# Altium footprint library con-phoenix-508.PCBLIB: 90 footprints (part 6 of 6)
Each footprint in its own frame and in the unit in brackets; x right, y up, seen from the top. Pads: shape width x height; smd on the part's side, far side on the other; paste and mask are expansions set on the pad; w line width, h text height; cw(c..) or ccw(c..) is an arc to the next point about the centre after c.
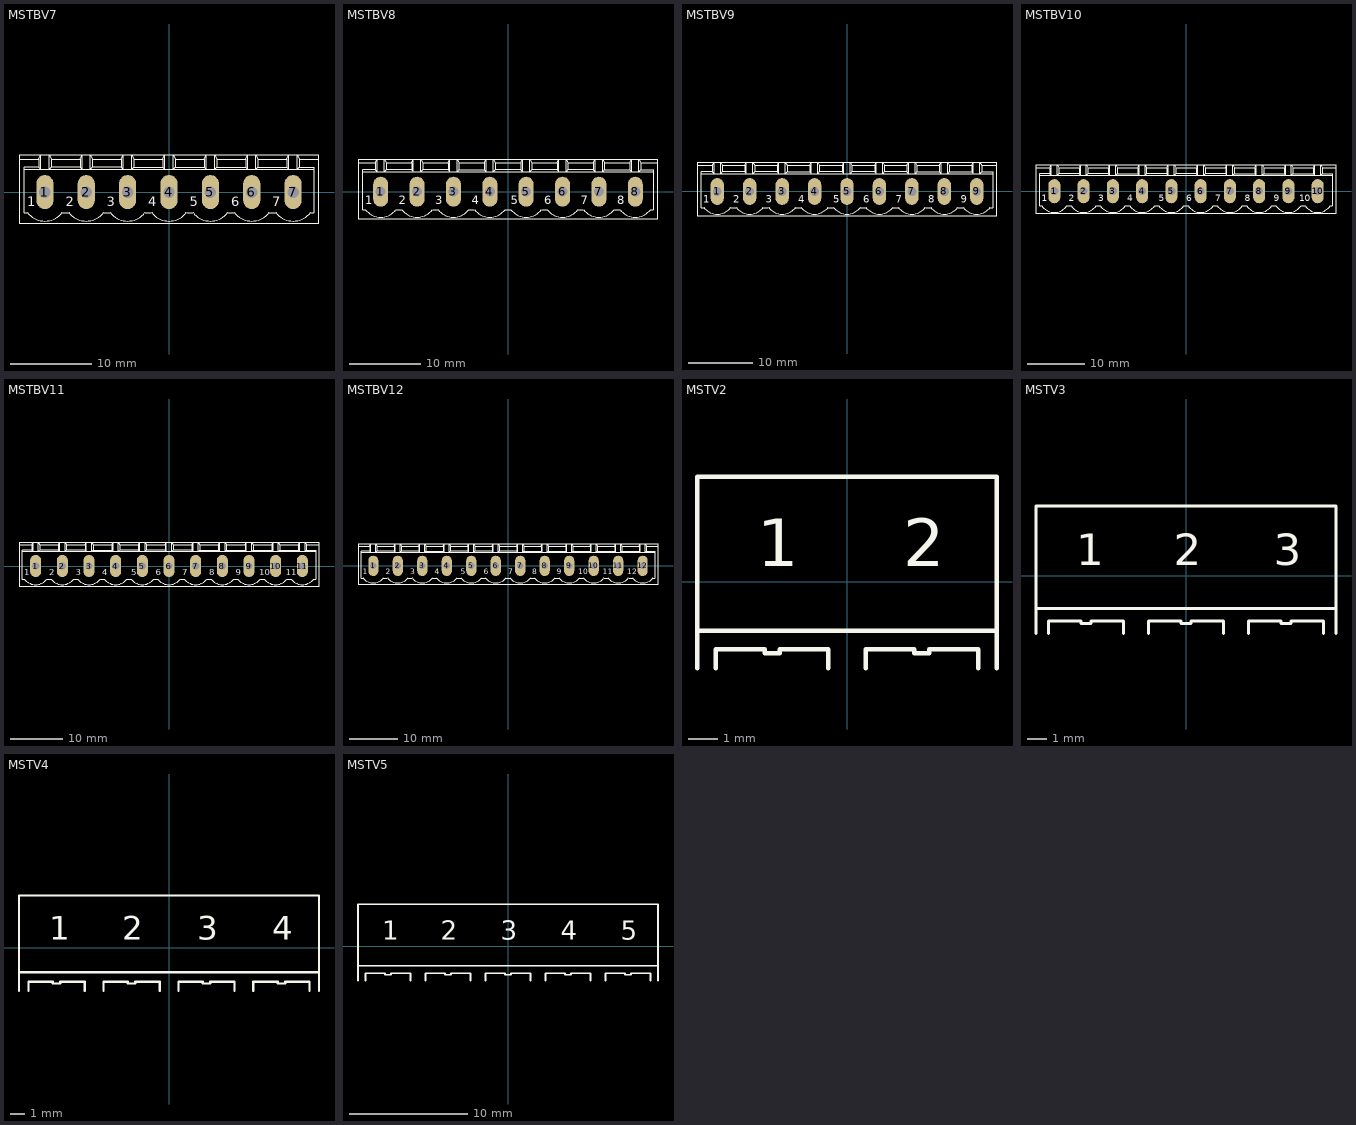
[diagram p5: the footprints below, top view; thin cyan lines are the x and y axes]

## MSTBV7 [mil]
pads (7):
  oval 82.5x165 hole 55: 1(-600,0) 2(-400,0) 3(-200,0) 4(0,0) 5(200,0) 6(400,0) 7(600,0)
Top Overlay:
  lines w6: -684,-98 ccw(c-600,-35) -600,-140 ccw(c-600,-35) -516,-98 ; -683,-100 -700,-100 -700,110 ; -515,-100 -485,-100 ; -484,-98 ccw(c-400,-35) -400,-140 ccw(c-400,-35) -316,-98 ; -315,-100 -285,-100 ; -284,-98 ccw(c-200,-35) -200,-140 ccw(c-200,-35) -116,-98 ; -115,-100 -85,-100 ; -84,-98 ccw(c0,-35) 0,-140 ccw(c0,-35) 84,-98 ; 85,-100 115,-100 ; 116,-98 ccw(c200,-35) 200,-140 ccw(c200,-35) 284,-98 ; 285,-100 315,-100 ; 316,-98 ccw(c400,-35) 400,-140 ccw(c400,-35) 484,-98 ; 485,-100 515,-100 ; 516,-98 ccw(c600,-35) 600,-140 ccw(c600,-35) 684,-98 ; 683,-100 700,-100 700,110 ; -725,160 -725,180 -620,180 ; -725,160 -725,-150 725,-150 725,160 ; -725,160 -630,160 ; -700,110 -700,120 -630,120 ; -700,110 -620,110 ; -630,120 -630,160 ; -630,120 -620,110 ; -630,160 -620,180 ; -620,110 -580,110 ; -620,110 -620,180 ; -620,180 -580,180 ; -580,110 -420,110 ; -580,110 -580,180 ; -580,110 -570,120 ; -580,180 -420,180 ; -580,180 -570,160 ; -570,120 -430,120 ; -570,120 -570,160 ; -570,160 -430,160 ; -430,120 -430,160 ; -430,120 -420,110 ; -430,160 -420,180 ; -420,110 -380,110 ; -420,110 -420,180 ; -420,180 -380,180 ; -380,110 -220,110 ; -380,110 -380,180 ; -380,110 -370,120 ; -380,180 -220,180 ; -380,180 -370,160 ; -370,120 -230,120 ; -370,120 -370,160 ; -370,160 -230,160 ; -230,120 -230,160 ; -230,120 -220,110 ; -230,160 -220,180 ; -220,110 -180,110 ; -220,110 -220,180 ; -220,180 -180,180 ; -180,110 -20,110 ; -180,110 -180,180 ; -180,110 -170,120 ; -180,180 -20,180 ; -180,180 -170,160 ; -170,120 -170,160 ; -170,120 -30,120 ; -170,160 -30,160 ; -30,120 -30,160 ; -30,120 -20,110 ; -30,160 -20,180 ; -20,110 20,110 ; -20,110 -20,180 ; -20,180 20,180 ; 20,110 180,110 ; 20,110 20,180 ; 20,110 30,120 ; 20,180 180,180 ; 20,180 30,160 ; 30,120 170,120 ; 30,120 30,160 ; 30,160 170,160 ; 170,120 170,160 ; 170,120 180,110 ; 170,160 180,180 ; 180,110 220,110 ; 180,110 180,180 ; 180,180 220,180 ; 220,110 380,110 ; 220,110 220,180 ; 220,110 230,120 ; 220,180 380,180 ; 220,180 230,160 ; 230,120 370,120 ; 230,120 230,160 ; 230,160 370,160 ; 370,120 370,160 ; 370,120 380,110 ; 370,160 380,180 ; 380,110 420,110 ; 380,110 380,180 ; 380,180 420,180 ; 420,110 580,110 ; 420,110 420,180 ; 420,110 430,120 ; 420,180 580,180 ; 420,180 430,160 ; 430,120 570,120 ; 430,120 430,160 ; 430,160 570,160 ; 570,120 570,160 ; 570,120 580,110 ; 570,160 580,180 ; 580,110 620,110 ; 580,110 580,180 ; 580,180 620,180 ; 620,110 700,110 ; 620,110 620,180 ; 620,110 630,120 ; 620,180 725,180 725,160 ; 620,180 630,160 ; 630,120 700,120 700,110 ; 630,120 630,160 ; 630,160 725,160
  text "1" at -685,-85 h77.5
  text "2" at -500,-85 h77.5
  text "3" at -300,-85 h77.5
  text "4" at -100,-85 h77.5
  text "5" at 100,-85 h77.5
  text "6" at 300,-85 h77.5
  text "7" at 500,-85 h77.5
Courtyard Bottom:
  lines w6: -625,-25 -625,25 ; -625,-25 -575,-25 ; -625,-25 -575,25 ; -625,25 -575,25 ; -625,25 -575,-25 ; -575,-25 -575,25 ; -425,-25 -375,-25 ; -425,-25 -425,25 ; -425,-25 -375,25 ; -425,25 -375,25 ; -425,25 -375,-25 ; -375,-25 -375,25 ; -225,-25 -225,25 ; -225,-25 -175,-25 ; -225,-25 -175,25 ; -225,25 -175,25 ; -225,25 -175,-25 ; -175,-25 -175,25 ; -25,-25 -25,25 ; -25,-25 25,25 ; -25,-25 25,-25 ; -25,25 25,25 ; -25,25 25,-25 ; 25,-25 25,25 ; 175,-25 225,-25 ; 175,-25 175,25 ; 175,-25 225,25 ; 175,25 225,25 ; 175,25 225,-25 ; 225,-25 225,25 ; 375,-25 375,25 ; 375,-25 425,-25 ; 375,-25 425,25 ; 375,25 425,25 ; 375,25 425,-25 ; 425,-25 425,25 ; 575,-25 575,25 ; 575,-25 625,-25 ; 575,-25 625,25 ; 575,25 625,25 ; 575,25 625,-25 ; 625,-25 625,25

## MSTBV8 [mil]
pads (8):
  oval 82.5x165 hole 55: 1(-700,0) 2(-500,0) 3(-300,0) 4(-100,0) 5(100,0) 6(300,0) 7(500,0) 8(700,0)
Top Overlay:
  lines w6: -784,-98 ccw(c-700,-35) -700,-140 ccw(c-700,-35) -616,-98 ; -783,-100 -800,-100 -800,110 ; -615,-100 -585,-100 ; -584,-98 ccw(c-500,-35) -500,-140 ccw(c-500,-35) -416,-98 ; -415,-100 -385,-100 ; -384,-98 ccw(c-300,-35) -300,-140 ccw(c-300,-35) -216,-98 ; -215,-100 -185,-100 ; -184,-98 ccw(c-100,-35) -100,-140 ccw(c-100,-35) -16,-98 ; -17,-100 17,-100 ; 16,-98 ccw(c100,-35) 100,-140 ccw(c100,-35) 184,-98 ; 185,-100 215,-100 ; 216,-98 ccw(c300,-35) 300,-140 ccw(c300,-35) 384,-98 ; 385,-100 415,-100 ; 416,-98 ccw(c500,-35) 500,-140 ccw(c500,-35) 584,-98 ; 585,-100 615,-100 ; 616,-98 ccw(c700,-35) 700,-140 ccw(c700,-35) 784,-98 ; 783,-100 800,-100 800,110 ; -825,160 -825,180 -720,180 ; -825,160 -825,-150 825,-150 825,160 ; -825,160 -730,160 ; -800,110 -800,120 -730,120 ; -800,110 -720,110 ; -730,120 -730,160 ; -730,120 -720,110 ; -730,160 -720,180 ; -720,110 -680,110 ; -720,110 -720,180 ; -720,180 -680,180 ; -680,110 -520,110 ; -680,110 -680,180 ; -680,110 -670,120 ; -680,180 -520,180 ; -680,180 -670,160 ; -670,120 -530,120 ; -670,120 -670,160 ; -670,160 -530,160 ; -530,120 -530,160 ; -530,120 -520,110 ; -530,160 -520,180 ; -520,110 -480,110 ; -520,110 -520,180 ; -520,180 -480,180 ; -480,110 -320,110 ; -480,110 -480,180 ; -480,110 -470,120 ; -480,180 -320,180 ; -480,180 -470,160 ; -470,120 -330,120 ; -470,120 -470,160 ; -470,160 -330,160 ; -330,120 -330,160 ; -330,120 -320,110 ; -330,160 -320,180 ; -320,110 -280,110 ; -320,110 -320,180 ; -320,180 -280,180 ; -280,110 -120,110 ; -280,110 -280,180 ; -280,110 -270,120 ; -280,180 -120,180 ; -280,180 -270,160 ; -270,120 -270,160 ; -270,120 -130,120 ; -270,160 -130,160 ; -130,120 -130,160 ; -130,120 -120,110 ; -130,160 -120,180 ; -120,110 -80,110 ; -120,110 -120,180 ; -120,180 -80,180 ; -80,110 -80,180 ; -80,110 -70,120 ; -80,110 80,110 ; -80,180 -70,160 ; -80,180 80,180 ; -70,120 -70,160 ; -70,120 70,120 ; -70,160 70,160 ; 70,120 70,160 ; 70,120 80,110 ; 70,160 80,180 ; 80,110 120,110 ; 80,110 80,180 ; 80,180 120,180 ; 120,110 280,110 ; 120,110 120,180 ; 120,110 130,120 ; 120,180 280,180 ; 120,180 130,160 ; 130,120 270,120 ; 130,120 130,160 ; 130,160 270,160 ; 270,120 270,160 ; 270,120 280,110 ; 270,160 280,180 ; 280,110 320,110 ; 280,110 280,180 ; 280,180 320,180 ; 320,110 480,110 ; 320,110 320,180 ; 320,110 330,120 ; 320,180 480,180 ; 320,180 330,160 ; 330,120 470,120 ; 330,120 330,160 ; 330,160 470,160 ; 470,120 470,160 ; 470,120 480,110 ; 470,160 480,180 ; 480,110 520,110 ; 480,110 480,180 ; 480,180 520,180 ; 520,110 680,110 ; 520,110 520,180 ; 520,110 530,120 ; 520,180 680,180 ; 520,180 530,160 ; 530,120 530,160 ; 530,120 670,120 ; 530,160 670,160 ; 670,120 670,160 ; 670,120 680,110 ; 670,160 680,180 ; 680,110 720,110 ; 680,110 680,180 ; 680,180 720,180 ; 720,110 800,110 ; 720,110 720,180 ; 720,110 730,120 ; 720,180 825,180 825,160 ; 720,180 730,160 ; 730,120 800,120 800,110 ; 730,120 730,160 ; 730,160 825,160
  text "1" at -785,-85 h77.5
  text "2" at -600,-85 h77.5
  text "3" at -400,-85 h77.5
  text "4" at -200,-85 h77.5
  text "5" at 15,-85 h77.5
  text "6" at 200,-85 h77.5
  text "7" at 400,-85 h77.5
  text "8" at 600,-85 h77.5
Courtyard Bottom:
  lines w6: -725,-25 -725,25 ; -725,-25 -675,-25 ; -725,-25 -675,25 ; -725,25 -675,25 ; -725,25 -675,-25 ; -675,-25 -675,25 ; -525,-25 -475,-25 ; -525,-25 -525,25 ; -525,-25 -475,25 ; -525,25 -475,25 ; -525,25 -475,-25 ; -475,-25 -475,25 ; -325,-25 -325,25 ; -325,-25 -275,-25 ; -325,-25 -275,25 ; -325,25 -275,25 ; -325,25 -275,-25 ; -275,-25 -275,25 ; -125,-25 -125,25 ; -125,-25 -75,25 ; -125,-25 -75,-25 ; -125,25 -75,25 ; -125,25 -75,-25 ; -75,-25 -75,25 ; 75,-25 75,25 ; 75,-25 125,-25 ; 75,-25 125,25 ; 75,25 125,25 ; 75,25 125,-25 ; 125,-25 125,25 ; 275,-25 325,-25 ; 275,-25 275,25 ; 275,-25 325,25 ; 275,25 325,25 ; 275,25 325,-25 ; 325,-25 325,25 ; 475,-25 475,25 ; 475,-25 525,-25 ; 475,-25 525,25 ; 475,25 525,25 ; 475,25 525,-25 ; 525,-25 525,25 ; 675,-25 675,25 ; 675,-25 725,25 ; 675,-25 725,-25 ; 675,25 725,25 ; 675,25 725,-25 ; 725,-25 725,25

## MSTBV9 [mil]
pads (9):
  oval 82.5x165 hole 55: 1(-800,0) 2(-600,0) 3(-400,0) 4(-200,0) 5(0,0) 6(200,0) 7(400,0) 8(600,0) 9(800,0)
Top Overlay:
  drawing of 167 lines, arcs and shapes, not listed
  text "1" at -885,-85 h77.5
  text "2" at -700,-85 h77.5
  text "3" at -500,-85 h77.5
  text "4" at -300,-85 h77.5
  text "5" at -85,-85 h77.5
  text "6" at 100,-85 h77.5
  text "7" at 300,-85 h77.5
  text "8" at 500,-85 h77.5
  text "9" at 700,-85 h77.5
Courtyard Bottom:
  lines w6: -825,-25 -825,25 ; -825,-25 -775,-25 ; -825,-25 -775,25 ; -825,25 -775,25 ; -825,25 -775,-25 ; -775,-25 -775,25 ; -625,-25 -575,-25 ; -625,-25 -625,25 ; -625,-25 -575,25 ; -625,25 -575,25 ; -625,25 -575,-25 ; -575,-25 -575,25 ; -425,-25 -425,25 ; -425,-25 -375,-25 ; -425,-25 -375,25 ; -425,25 -375,25 ; -425,25 -375,-25 ; -375,-25 -375,25 ; -225,-25 -225,25 ; -225,-25 -175,25 ; -225,-25 -175,-25 ; -225,25 -175,25 ; -225,25 -175,-25 ; -175,-25 -175,25 ; -25,-25 -25,25 ; -25,-25 25,-25 ; -25,-25 25,25 ; -25,25 25,25 ; -25,25 25,-25 ; 25,-25 25,25 ; 175,-25 225,-25 ; 175,-25 175,25 ; 175,-25 225,25 ; 175,25 225,25 ; 175,25 225,-25 ; 225,-25 225,25 ; 375,-25 375,25 ; 375,-25 425,-25 ; 375,-25 425,25 ; 375,25 425,25 ; 375,25 425,-25 ; 425,-25 425,25 ; 575,-25 575,25 ; 575,-25 625,25 ; 575,-25 625,-25 ; 575,25 625,25 ; 575,25 625,-25 ; 625,-25 625,25 ; 775,-25 775,25 ; 775,-25 825,-25 ; 775,-25 825,25 ; 775,25 825,25 ; 775,25 825,-25 ; 825,-25 825,25

## MSTBV10 [mil]
pads (10):
  oval 82.5x165 hole 55: 1(-900,0) 2(-700,0) 3(-500,0) 4(-300,0) 5(-100,0) 6(100,0) 7(300,0) 8(500,0) 9(700,0) 10(900,0)
Top Overlay:
  drawing of 184 lines, arcs and shapes, not listed
  text "1" at -985,-85 h77.5
  text "2" at -800,-85 h77.5
  text "3" at -600,-85 h77.5
  text "4" at -400,-85 h77.5
  text "5" at -185,-85 h77.5
  text "6" at 0,-85 h77.5
  text "7" at 200,-85 h77.5
  text "8" at 400,-85 h77.5
  text "9" at 600,-85 h77.5
  text "10" at 775,-85 h77.5
Courtyard Bottom:
  lines w6: -925,-25 -925,25 ; -925,-25 -875,-25 ; -925,-25 -875,25 ; -925,25 -875,25 ; -925,25 -875,-25 ; -875,-25 -875,25 ; -725,-25 -675,-25 ; -725,-25 -725,25 ; -725,-25 -675,25 ; -725,25 -675,25 ; -725,25 -675,-25 ; -675,-25 -675,25 ; -525,-25 -525,25 ; -525,-25 -475,-25 ; -525,-25 -475,25 ; -525,25 -475,25 ; -525,25 -475,-25 ; -475,-25 -475,25 ; -325,-25 -325,25 ; -325,-25 -275,25 ; -325,-25 -275,-25 ; -325,25 -275,25 ; -325,25 -275,-25 ; -275,-25 -275,25 ; -125,-25 -125,25 ; -125,-25 -75,-25 ; -125,-25 -75,25 ; -125,25 -75,25 ; -125,25 -75,-25 ; -75,-25 -75,25 ; 75,-25 125,-25 ; 75,-25 75,25 ; 75,-25 125,25 ; 75,25 125,25 ; 75,25 125,-25 ; 125,-25 125,25 ; 275,-25 275,25 ; 275,-25 325,-25 ; 275,-25 325,25 ; 275,25 325,25 ; 275,25 325,-25 ; 325,-25 325,25 ; 475,-25 475,25 ; 475,-25 525,25 ; 475,-25 525,-25 ; 475,25 525,25 ; 475,25 525,-25 ; 525,-25 525,25 ; 675,-25 675,25 ; 675,-25 725,-25 ; 675,-25 725,25 ; 675,25 725,25 ; 675,25 725,-25 ; 725,-25 725,25 ; 875,-25 875,25 ; 875,-25 925,-25 ; 875,-25 925,25 ; 875,25 925,25 ; 875,25 925,-25 ; 925,-25 925,25

## MSTBV11 [mil]
pads (11):
  oval 82.5x165 hole 55: 1(-1000,0) 2(-800,0) 3(-600,0) 4(-400,0) 5(-200,0) 6(0,0) 7(200,0) 8(400,0) 9(600,0) 10(800,0) 11(1000,0)
Top Overlay:
  drawing of 201 lines, arcs and shapes, not listed
  text "1" at -1085,-85 h77.5
  text "2" at -900,-85 h77.5
  text "3" at -700,-85 h77.5
  text "4" at -500,-85 h77.5
  text "5" at -285,-85 h77.5
  text "6" at -100,-85 h77.5
  text "7" at 100,-85 h77.5
  text "8" at 300,-85 h77.5
  text "9" at 500,-85 h77.5
  text "10" at 675,-85 h77.5
  text "11" at 875,-85 h77.5
Courtyard Bottom:
  lines w6: -1025,-25 -1025,25 ; -1025,-25 -975,-25 ; -1025,-25 -975,25 ; -1025,25 -975,25 ; -1025,25 -975,-25 ; -975,-25 -975,25 ; -825,-25 -775,-25 ; -825,-25 -825,25 ; -825,-25 -775,25 ; -825,25 -775,25 ; -825,25 -775,-25 ; -775,-25 -775,25 ; -625,-25 -625,25 ; -625,-25 -575,-25 ; -625,-25 -575,25 ; -625,25 -575,25 ; -625,25 -575,-25 ; -575,-25 -575,25 ; -425,-25 -425,25 ; -425,-25 -375,25 ; -425,-25 -375,-25 ; -425,25 -375,25 ; -425,25 -375,-25 ; -375,-25 -375,25 ; -225,-25 -225,25 ; -225,-25 -175,-25 ; -225,-25 -175,25 ; -225,25 -175,25 ; -225,25 -175,-25 ; -175,-25 -175,25 ; -25,-25 25,-25 ; -25,-25 -25,25 ; -25,-25 25,25 ; -25,25 25,25 ; -25,25 25,-25 ; 25,-25 25,25 ; 175,-25 175,25 ; 175,-25 225,-25 ; 175,-25 225,25 ; 175,25 225,25 ; 175,25 225,-25 ; 225,-25 225,25 ; 375,-25 375,25 ; 375,-25 425,25 ; 375,-25 425,-25 ; 375,25 425,25 ; 375,25 425,-25 ; 425,-25 425,25 ; 575,-25 575,25 ; 575,-25 625,-25 ; 575,-25 625,25 ; 575,25 625,25 ; 575,25 625,-25 ; 625,-25 625,25 ; 775,-25 775,25 ; 775,-25 825,-25 ; 775,-25 825,25 ; 775,25 825,25 ; 775,25 825,-25 ; 825,-25 825,25 ; 975,-25 975,25 ; 975,-25 1025,-25 ; 975,-25 1025,25 ; 975,25 1025,25 ; 975,25 1025,-25 ; 1025,-25 1025,25

## MSTBV12 [mil]
pads (12):
  oval 82.5x165 hole 55: 1(-1100,0) 2(-900,0) 3(-700,0) 4(-500,0) 5(-300,0) 6(-100,0) 7(100,0) 8(300,0) 9(500,0) 10(700,0) 11(900,0) 12(1100,0)
Top Overlay:
  drawing of 218 lines, arcs and shapes, not listed
  text "1" at -1185,-85 h77.5
  text "2" at -1000,-85 h77.5
  text "3" at -800,-85 h77.5
  text "4" at -600,-85 h77.5
  text "5" at -385,-85 h77.5
  text "6" at -200,-85 h77.5
  text "7" at 0,-85 h77.5
  text "8" at 200,-85 h77.5
  text "9" at 400,-85 h77.5
  text "10" at 575,-85 h77.5
  text "11" at 775,-85 h77.5
  text "12" at 975,-85 h77.5
Courtyard Bottom:
  lines w6: -1125,-25 -1125,25 ; -1125,-25 -1075,-25 ; -1125,-25 -1075,25 ; -1125,25 -1075,25 ; -1125,25 -1075,-25 ; -1075,-25 -1075,25 ; -925,-25 -875,-25 ; -925,-25 -925,25 ; -925,-25 -875,25 ; -925,25 -875,25 ; -925,25 -875,-25 ; -875,-25 -875,25 ; -725,-25 -725,25 ; -725,-25 -675,-25 ; -725,-25 -675,25 ; -725,25 -675,25 ; -725,25 -675,-25 ; -675,-25 -675,25 ; -525,-25 -525,25 ; -525,-25 -475,25 ; -525,-25 -475,-25 ; -525,25 -475,25 ; -525,25 -475,-25 ; -475,-25 -475,25 ; -325,-25 -325,25 ; -325,-25 -275,-25 ; -325,-25 -275,25 ; -325,25 -275,25 ; -325,25 -275,-25 ; -275,-25 -275,25 ; -125,-25 -75,-25 ; -125,-25 -125,25 ; -125,-25 -75,25 ; -125,25 -75,25 ; -125,25 -75,-25 ; -75,-25 -75,25 ; 75,-25 75,25 ; 75,-25 125,-25 ; 75,-25 125,25 ; 75,25 125,25 ; 75,25 125,-25 ; 125,-25 125,25 ; 275,-25 275,25 ; 275,-25 325,25 ; 275,-25 325,-25 ; 275,25 325,25 ; 275,25 325,-25 ; 325,-25 325,25 ; 475,-25 475,25 ; 475,-25 525,-25 ; 475,-25 525,25 ; 475,25 525,25 ; 475,25 525,-25 ; 525,-25 525,25 ; 675,-25 675,25 ; 675,-25 725,-25 ; 675,-25 725,25 ; 675,25 725,25 ; 675,25 725,-25 ; 725,-25 725,25 ; 875,-25 875,25 ; 875,-25 925,-25 ; 875,-25 925,25 ; 875,25 925,25 ; 875,25 925,-25 ; 925,-25 925,25 ; 1075,-25 1075,25 ; 1075,-25 1125,-25 ; 1075,-25 1125,25 ; 1075,25 1125,25 ; 1075,25 1125,-25 ; 1125,-25 1125,25

## MSTV2 [mil]
Top Overlay:
  lines w6: -200,-115 -200,-65 ; -175,-115 -175,-90 -110,-90 -110,-95 -90,-95 -90,-90 -25,-90 -25,-115 ; 25,-115 25,-90 90,-90 90,-95 110,-95 110,-90 175,-90 175,-115 ; 200,-115 200,-65 ; -200,-65 -200,140 200,140 200,-65 ; -200,-65 200,-65
  text "1" at -120,0 h108.5
  text "2" at 75,0 h108.5

## MSTV3 [mil]
Top Overlay:
  lines w6: -300,-115 -300,-65 ; -275,-115 -275,-90 -210,-90 -210,-95 -190,-95 -190,-90 -125,-90 -125,-115 ; -75,-115 -75,-90 -10,-90 -10,-95 10,-95 10,-90 75,-90 75,-115 ; 125,-115 125,-90 190,-90 190,-95 210,-95 210,-90 275,-90 275,-115 ; 300,-115 300,-65 ; -300,-65 -300,140 300,140 300,-65 ; -300,-65 300,-65
  text "1" at -220,0 h108.5
  text "2" at -25,0 h108.5
  text "3" at 175,0 h108.5

## MSTV4 [mil]
Top Overlay:
  lines w6: -400,-115 -400,-65 ; -375,-115 -375,-90 -310,-90 -310,-95 -290,-95 -290,-90 -225,-90 -225,-115 ; -175,-115 -175,-90 -110,-90 -110,-95 -90,-95 -90,-90 -25,-90 -25,-115 ; 25,-115 25,-90 90,-90 90,-95 110,-95 110,-90 175,-90 175,-115 ; 225,-115 225,-90 290,-90 290,-95 310,-95 310,-90 375,-90 375,-115 ; 400,-115 400,-65 ; -400,-65 -400,140 400,140 400,-65 ; -400,-65 400,-65
  text "1" at -320,0 h108.5
  text "2" at -125,0 h108.5
  text "3" at 75,0 h108.5
  text "4" at 275,0 h108.5

## MSTV5 [mil]
Top Overlay:
  lines w6: -500,-115 -500,-65 ; -475,-115 -475,-90 -410,-90 -410,-95 -390,-95 -390,-90 -325,-90 -325,-115 ; -275,-115 -275,-90 -210,-90 -210,-95 -190,-95 -190,-90 -125,-90 -125,-115 ; -75,-115 -75,-90 -10,-90 -10,-95 10,-95 10,-90 75,-90 75,-115 ; 125,-115 125,-90 190,-90 190,-95 210,-95 210,-90 275,-90 275,-115 ; 325,-115 325,-90 390,-90 390,-95 410,-95 410,-90 475,-90 475,-115 ; 500,-115 500,-65 ; -500,-65 -500,140 500,140 500,-65 ; -500,-65 500,-65
  text "1" at -420,0 h108.5
  text "2" at -225,0 h108.5
  text "3" at -25,0 h108.5
  text "4" at 175,0 h108.5
  text "5" at 375,0 h108.5